# Altium schematic symbol library ADR4540BRZ.SchLib: 1 symbol
Pins are listed as number, name and electrical type; pins without a type are passive.

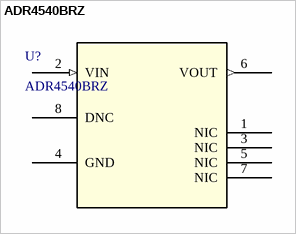
[diagram p0: symbol ADR4540BRZ]

## ADR4540BRZ
designator U?
Ultra-Low-Noise, High-Accuracy 4.096V Voltage Reference; Manufacturer_Name: Analog Devices Inc; Type: Power Management; Copyright: Copyright (C) 2025 Ultra Librarian. All rights reserved.; Manufacturer_Part_Number: ADR4540BRZ; RefDes: RefDes
footprint R-8_ADI
pins: 1 NIC, 2 VIN (in), 3 NIC, 4 GND (power), 5 NIC, 6 VOUT (out), 7 NIC, 8 DNC